# Altium schematic symbol library PCB_training_Project.SCHLIB: 20 symbols
Pins are listed as number, name and electrical type; pins without a type are passive.

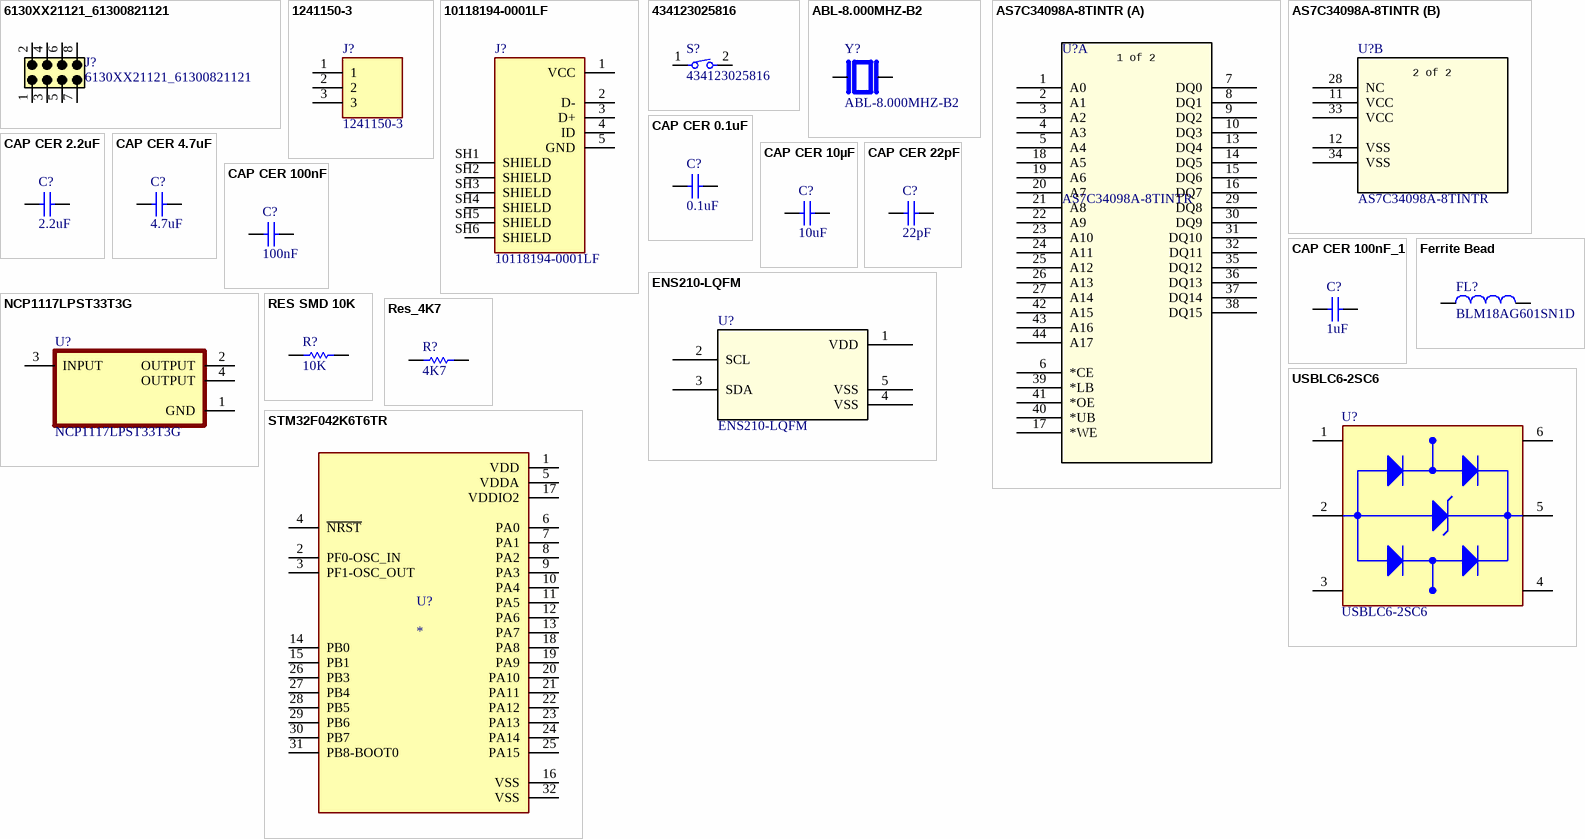
[diagram p0: symbols 6130XX21121_61300821121 to USBLC6-2SC6]

## 6130XX21121_61300821121
designator J?
Connector Header Through Hole 8 position 0.100 (2.54mm); MF: Wurth Electronics; SnapEDA_Link: https://www.snapeda.com/parts/61300821121/Wurth+Electronics/view-part/?ref=snap; Package: None; Value: *; MP: 61300821121; Check_prices: https://www.snapeda.com/parts/61300821121/Wurth+Electronics/view-part/?ref=eda
footprint 61300821121
pins: 1, 2, 3, 4, 5, 6, 7, 8

## 1241150-3
designator J?
Conn Unshrouded Header HDR 3 POS 2.54mm Solder ST SMD Blister Pack; MF: TE Connectivity; Availability: Good; SnapEDA_Link: https://www.snapeda.com/parts/1241150-3/TE%20Connectivity/view-part/379511/?ref=snap; MP: 1241150-3; DigiKey-Purchase-URL: https://snapeda.com/shop?store=DigiKey&id=379511; Value: *; Price: None; Mouser-Purchase-URL: https://snapeda.com/shop?store=Mouser&id=379511; Package: None
footprint TE_1241150-3
pins: 1, 2, 3

## 10118194-0001LF
designator J?
Micro USB, Input Output Connectors, B TYPE RECEPTACLE with flange; MF: Amphenol ICC; SnapEDA_Link: https://www.snapeda.com/parts/10118194-0001LF/Amphenol+FCI/view-part/?ref=snap; Package: None; Value: *; MP: 10118194-0001LF; Check_prices: https://www.snapeda.com/parts/10118194-0001LF/Amphenol+FCI/view-part/?ref=eda
footprint AMPHENOL_10118194-0001LF
pins: 1 VCC, 2 D-, 3 D+, 4 ID, 5 GND, SH1 SHIELD, SH2 SHIELD, SH3 SHIELD, SH4 SHIELD, SH5 SHIELD, SH6 SHIELD

## 434123025816
designator S?
Tactile Switch SPST-NO Top Actuated Surface Mount; MF: WÃ¼rth Elektronik; SnapEDA_Link: https://www.snapeda.com/parts/434123025816/W%25C3%25BCrth+Elektronik+Midcom/view-part/?ref=snap; Package: None; Value: *; MP: 434123025816; Check_prices: https://www.snapeda.com/parts/434123025816/W%25C3%25BCrth+Elektronik+Midcom/view-part/?ref=eda
footprint 434123025816
pins: 1, 2

## ABL-8.000MHZ-B2
designator Y?
HC/49US (AT49) MICROPROCESSOR CRYSTAL; MF: Abracon; Check_prices: https://www.snapeda.com/parts/ABL-8.000MHZ-B2/Abracon+LLC/view-part/?ref=eda; Package: HC-49/US ABRACON; MP: ABL-8.000MHZ-B2; Value: *; SnapEDA_Link: https://www.snapeda.com/parts/ABL-8.000MHZ-B2/Abracon+LLC/view-part/?ref=snap; Availability: In Stock; Price: None; Purchase-URL: https://pricing.snapeda.com/search/part/ABL-8.000MHZ-B2/?ref=eda
footprint XTAL_HC49P488W46L1150T500H350
pins: 1, 2

## AS7C34098A-8TINTR
designator U?
No Description Available; Manufacturer_Name: Alliance Memory; Copyright: Copyright (C) 2026 Ultra Librarian. All rights reserved.; Manufacturer_Part_Number: AS7C34098A-8TINTR; RefDes: RefDes; Type: Type
footprint TSOP-44_MIL400_ALL
part A pins: 1 A0, 2 A1, 3 A2, 4 A3, 5 A4, 6 *CE, 7 DQ0, 8 DQ1, 9 DQ2, 10 DQ3, 13 DQ4, 14 DQ5, 15 DQ6, 16 DQ7, 17 *WE, 18 A5, 19 A6, 20 A7, 21 A8, 22 A9, 23 A10, 24 A11, 25 A12, 26 A13, 27 A14, 29 DQ8, 30 DQ9, 31 DQ10, 32 DQ11, 35 DQ12, 36 DQ13, 37 DQ14, 38 DQ15, 39 *LB, 40 *UB, 41 *OE, 42 A15, 43 A16, 44 A17
part B pins: 11 VCC (power), 12 VSS (power), 28 NC, 33 VCC (power), 34 VSS (power)
part A text: 1 of 2
part B text: 2 of 2

## CAP CER 0.1uF
designator C?, comment 0.1uF
CAP CER 0.1uF 16V X7R 10% 0402; Value: 100nF; Capacitor Type: Ceramic; Mount: Surface Mount; RoHS: Yes; Tolerance: 10%; Case/Package: 0402; Construction: Flat; Width: 0.02inch; Voltage Rating: 16V; Packaging: Tape and Reel; Series: C; Thickness: 0.022inch; Voltage Rating (DC): 16V; Capacitance: 100nF; Dielectric Material: Ceramic; Package Quantity: 50000; Height: 0.5mm; Dielectric: X7R; Depth: 0.5mm; Length: 1mm; Max Operating Temperature: 125°C; Min Operating Temperature: -55°C
footprint CAP_0402L
pins: 1, 2

## CAP CER 2.2uF
designator C?, comment 2.2uF
CAP CER 2.2uF 16V X7R 10% 0402; Value: 100nF; Capacitor Type: Ceramic; Mount: Surface Mount; RoHS: Yes; Tolerance: 10%; Case/Package: 0402; Construction: Flat; Width: 0.02inch; Voltage Rating: 16V; Packaging: Tape and Reel; Series: C; Thickness: 0.022inch; Voltage Rating (DC): 16V; Capacitance: 100nF; Dielectric Material: Ceramic; Package Quantity: 50000; Height: 0.5mm; Dielectric: X7R; Depth: 0.5mm; Length: 1mm; Max Operating Temperature: 125°C; Min Operating Temperature: -55°C
footprint CAP_0402L
pins: 1, 2

## CAP CER 4.7uF
designator C?, comment 4.7uF
CAP CER 4.7uF 16V X7R 10% 0402; Value: 100nF; Capacitor Type: Ceramic; Mount: Surface Mount; RoHS: Yes; Tolerance: 10%; Case/Package: 0402; Construction: Flat; Width: 0.02inch; Voltage Rating: 16V; Packaging: Tape and Reel; Series: C; Thickness: 0.022inch; Voltage Rating (DC): 16V; Capacitance: 100nF; Dielectric Material: Ceramic; Package Quantity: 50000; Height: 0.5mm; Dielectric: X7R; Depth: 0.5mm; Length: 1mm; Max Operating Temperature: 125°C; Min Operating Temperature: -55°C
footprint CAP_0402L
pins: 1, 2

## CAP CER 10µF
designator C?, comment 10uF
CAP CER 10µF 16V X7R 10% 0402; Value: 100nF; Capacitor Type: Ceramic; Mount: Surface Mount; RoHS: Yes; Tolerance: 10%; Case/Package: 0402; Construction: Flat; Width: 0.02inch; Voltage Rating: 16V; Packaging: Tape and Reel; Series: C; Thickness: 0.022inch; Voltage Rating (DC): 16V; Capacitance: 100nF; Dielectric Material: Ceramic; Package Quantity: 50000; Height: 0.5mm; Dielectric: X7R; Depth: 0.5mm; Length: 1mm; Max Operating Temperature: 125°C; Min Operating Temperature: -55°C
footprint CAP_0402L
pins: 1, 2

## CAP CER 22pF
designator C?, comment 22pF
CAP CER 22pF 16V X7R 10% 0402; Value: 100nF; Capacitor Type: Ceramic; Mount: Surface Mount; RoHS: Yes; Tolerance: 10%; Case/Package: 0402; Construction: Flat; Width: 0.02inch; Voltage Rating: 16V; Packaging: Tape and Reel; Series: C; Thickness: 0.022inch; Voltage Rating (DC): 16V; Capacitance: 100nF; Dielectric Material: Ceramic; Package Quantity: 50000; Height: 0.5mm; Dielectric: X7R; Depth: 0.5mm; Length: 1mm; Max Operating Temperature: 125°C; Min Operating Temperature: -55°C
footprint CAP_0402L
pins: 1, 2

## CAP CER 100nF
designator C?, comment 100nF
CAP CER 100nF 16V X7R 10% 0402; Capacitor Type: Ceramic; Mount: Surface Mount; RoHS: Yes; Tolerance: 10%; Value: 100nF; Case/Package: 0402; Construction: Flat; Width: 0.02inch; Voltage Rating: 16V; Packaging: Tape and Reel; Series: C; Thickness: 0.022inch; Voltage Rating (DC): 16V; Capacitance: 100nF; Dielectric Material: Ceramic; Package Quantity: 50000; Height: 0.5mm; Dielectric: X7R; Depth: 0.5mm; Length: 1mm; Max Operating Temperature: 125°C; Min Operating Temperature: -55°C
footprint CAP_0402L
pins: 1, 2

## CAP CER 100nF_1
designator C?, comment 1uF
CAP CER 100nF 16V X7R 10% 0402; Capacitor Type: Ceramic; Mount: Surface Mount; RoHS: Yes; Tolerance: 10%; Value: 100nF; Case/Package: 0402; Construction: Flat; Width: 0.02inch; Voltage Rating: 16V; Packaging: Tape and Reel; Series: C; Thickness: 0.022inch; Voltage Rating (DC): 16V; Capacitance: 100nF; Dielectric Material: Ceramic; Package Quantity: 50000; Height: 0.5mm; Dielectric: X7R; Depth: 0.5mm; Length: 1mm; Max Operating Temperature: 125°C; Min Operating Temperature: -55°C
footprint CAP_0402L
pins: 1, 2

## ENS210-LQFM
designator U?
Description; Manufacturer_Name: ams OSRAM; Copyright: Copyright (C) 2025 Ultra Librarian. All rights reserved.; Manufacturer_Part_Number: ENS210-LQFM; RefDes: RefDes; Type: Type
footprint SON-04-ENS210_2X2_AMS
pins: 1 VDD (power), 2 SCL, 3 SDA, 4 VSS (power), 5 VSS (power)

## Ferrite Bead
designator FL?, comment BLM18AG601SN1D
600 Ohms @ 100 MHz 1 - Ferrite Bead 0603 (1608 Metric) 500mA 380mOhm; MF: Murata; Check_prices: https://www.snapeda.com/parts/BLM18AG601SN1D/Murata/view-part/?ref=eda; SnapEDA_Link: https://www.snapeda.com/parts/BLM18AG601SN1D/Murata/view-part/?ref=snap; Availability: In Stock; Value: *; Price: None; MP: BLM18AG601SN1D; Package: 1608 Murata; Purchase-URL: https://pricing.snapeda.com/search/part/BLM18AG601SN1D/?ref=eda
footprint BEADC1608X95N
pins: 1, 2

## NCP1117LPST33T3G
designator U?
Linear Voltage Regulator IC Positive Fixed 1 Output 1A SOT-223; MF: ON Semiconductor; SnapEDA_Link: https://www.snapeda.com/parts/NCP1117LPST33T3G/Onsemi/view-part/?ref=snap; Package: SOT-223-4 ON Semiconductor; Value: *; MP: NCP1117LPST33T3G; Check_prices: https://www.snapeda.com/parts/NCP1117LPST33T3G/Onsemi/view-part/?ref=eda
footprint SOT230P700X175-4N
footprint SOT230P700X175-4N
pins: 1 GND (power), 2 OUTPUT, 3 INPUT, 4 OUTPUT

## RES SMD 10K
designator R?, comment 10K
RES SMD 10K OHM 1% 1/16W 0402; Value: 0; Working Voltage: 50V; Temperature Coefficient: 100ppm/°C; Power Rating: 62.5mW; Resistance: 10kR; Lead Free: Lead Free; Height: 0.32mm; RoHS: Yes; Military Standard: Not; Lead Pitch: 0.2mm; Number of Terminations: 2; Case Code (Metric): 1005; REACH SVHC: No SVHC; Composition: Thick Film; Max Operating Temperature: 155°C; Tolerance: 1%; Min Operating Temperature: -55°C; Termination: SMD/SMT; Depth: 0.5mm; Width: 0.5mm; Voltage Rating: 50V; Number of Pins: 2; Length: 1mm; Case Code (Imperial): 0402; Case/Package: 0402; Mount: SMD; Packaging: Tape and Reel; Voltage Rating (DC): 50V
footprint RES_0402N
pins: 1, 2

## Res_4K7
designator R?, comment 4K7
RES SMD 4.7K OHM 1% 1/16W 0402; Value: 0; Working Voltage: 50V; Temperature Coefficient: 100ppm/°C; Power Rating: 62.5mW; Resistance: 10kR; Lead Free: Lead Free; Height: 0.32mm; RoHS: Yes; Military Standard: Not; Lead Pitch: 0.2mm; Number of Terminations: 2; Case Code (Metric): 1005; REACH SVHC: No SVHC; Composition: Thick Film; Max Operating Temperature: 155°C; Tolerance: 1%; Min Operating Temperature: -55°C; Termination: SMD/SMT; Depth: 0.5mm; Width: 0.5mm; Voltage Rating: 50V; Number of Pins: 2; Length: 1mm; Case Code (Imperial): 0402; Case/Package: 0402; Mount: SMD; Packaging: Tape and Reel; Voltage Rating (DC): 50V
footprint RES_0402N
pins: 1, 2

## STM32F042K6T6TR
designator U?
ARMÂ® CortexÂ®-M0 STM32F0 Microcontroller IC 32-Bit Single-Core 48MHz 32KB (32K x 8) FLASH 32-LQFP (7x7); MF: STMicroelectronics; MP: STM32F042K6T6TR; SnapEDA_Link: https://www.snapeda.com/parts/STM32F042K6T6TR/STMicroelectronics/view-part/?ref=snap; Package: LQFP-32 STMicroelectronics; Value: *; Check_prices: https://www.snapeda.com/parts/STM32F042K6T6TR/STMicroelectronics/view-part/?ref=eda
footprint QFP80P900X900X160-32N
pins: 1 VDD, 2 PF0-OSC_IN, 3 PF1-OSC_OUT, 4 ~{NRST}, 5 VDDA, 6 PA0, 7 PA1, 8 PA2, 9 PA3, 10 PA4, 11 PA5, 12 PA6, 13 PA7, 14 PB0, 15 PB1, 16 VSS, 17 VDDIO2, 18 PA8, 19 PA9, 20 PA10, 21 PA11, 22 PA12, 23 PA13, 24 PA14, 25 PA15, 26 PB3, 27 PB4, 28 PB5, 29 PB6, 30 PB7, 31 PB8-BOOT0, 32 VSS

## USBLC6-2SC6
designator U?
17V Clamp 5A (8/20Âµs) Ipp Tvs Diode Surface Mount SOT-23-6; MF: STMicroelectronics; Value: *; SnapEDA_Link: https://www.snapeda.com/parts/USBLC6-2SC6/STMicroelectronics/view-part/?ref=snap; Check_prices: https://www.snapeda.com/parts/USBLC6-2SC6/STMicroelectronics/view-part/?ref=eda; Purchase-URL: https://pricing.snapeda.com/search/part/USBLC6-2SC6/?ref=eda; Price: None; Availability: In Stock; Package: SOT-23-6 STMicroelectronics; MP: USBLC6-2SC6
footprint SOT95P280X145-6N
pins: 1 I/O1_IN, 2 GND, 3 I/O2_IN, 4 I/O2_OUT, 5 VBUS, 6 I/O1_OUT